# Altium schematic symbol library Generic.SchLib: 8 symbols
Pins are listed as number, name and electrical type; pins without a type are passive.

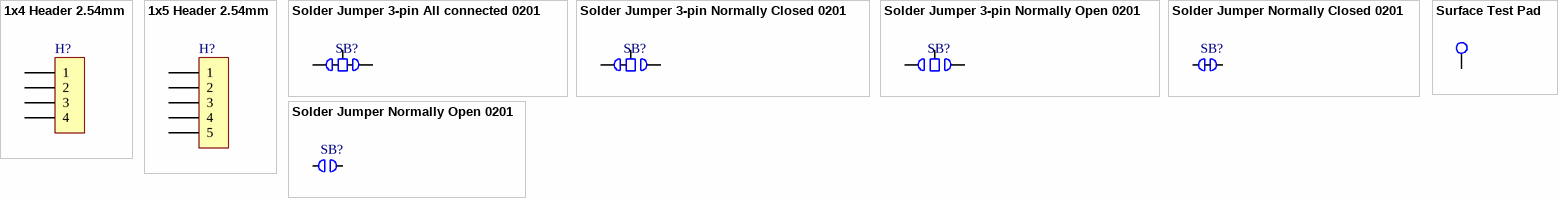
[diagram p0: symbols 1x4 Header 2.54mm to Surface Test Pad]

## 1x4 Header 2.54mm
designator H?  (value not drawn)  (no BOM)
footprint HEADER_2.54MM_1x4PIN
pins: 1, 2, 3, 4

## 1x5 Header 2.54mm
designator H?  (value not drawn)  (no BOM)
footprint HEADER_2.54MM_1x5PIN
pins: 1, 2, 3, 4, 5

## Solder Jumper 3-pin All connected 0201
designator SB?  (value not drawn)  (net tie, no BOM)
DEBUG: DEBUG
footprint Solder Bridge 3-pin All Shorted 0201
pins: 1 Common, 2, 3

## Solder Jumper 3-pin Normally Closed 0201
designator SB?, comment Solder Jumper 3-pin Left connected 0201  (value not drawn)  (net tie, no BOM)
DEBUG: DEBUG
footprint Solder Bridge 3-pin Left shorted 0201
pins: 1 Common, 2, 3

## Solder Jumper 3-pin Normally Open 0201
designator SB?  (value not drawn)  (no BOM)
DEBUG: DEBUG
footprint Solder Bridge 3-pin Open 0201
pins: 1 Common, 2, 3

## Solder Jumper Normally Closed 0201
designator SB?  (value not drawn)  (net tie, no BOM)
DEBUG: DEBUG
footprint Solder Bridge Closed 0201
pins: 1, 2

## Solder Jumper Normally Open 0201
designator SB?  (value not drawn)  (no BOM)
DEBUG: DEBUG
footprint Solder Bridge Open 0201
pins: 1, 2

## Surface Test Pad
designator T*  (value not drawn)  (no BOM)
footprint Test Pad (Exposed copper pad)
pins: 1 0